# EAGLE library part TCMT4100 (library SoftDust)
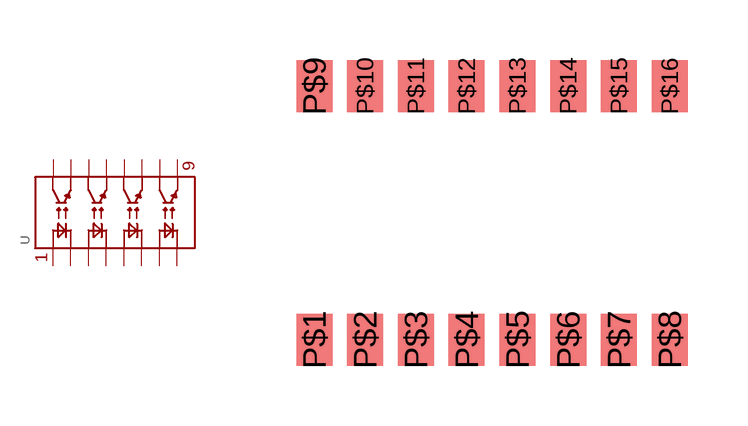
[diagram p2: symbol with the pads of SOIC-16; footprint SOIC-16]

Designator prefix -

## TCMT4100SOIC-16  [SOIC-16]
P$1  P$1
P$2  P$2
P$3  P$3
P$4  P$4
P$5  P$5
P$6  P$6
P$7  P$7
P$8  P$8
P$9  P$9
P$10  P$10
P$11  P$11
P$12  P$12
P$13  P$13
P$14  P$14
P$15  P$15
P$16  P$16

## Footprint SOIC-16 (pad centres in mm)
smd 0.9 x 1.3: P$1 0,0; P$2 1.27,0; P$3 2.54,0; P$4 3.81,0; P$5 5.08,0; P$6 6.35,0; P$7 7.62,0; P$8 8.89,0; P$9 0,6.35; P$10 1.27,6.35; P$11 2.54,6.35; P$12 3.81,6.35; P$13 5.08,6.35; P$14 6.35,6.35; P$15 7.62,6.35; P$16 8.89,6.35